# Altium footprint library samd21-temp.PCBLIB: 31 footprints (part 2 of 2)
Each footprint in its own frame and in the unit in brackets; x right, y up, seen from the top. Pads: shape width x height; smd on the part's side, far side on the other; paste and mask are expansions set on the pad; w line width, h text height; cw(c..) or ccw(c..) is an arc to the next point about the centre after c.
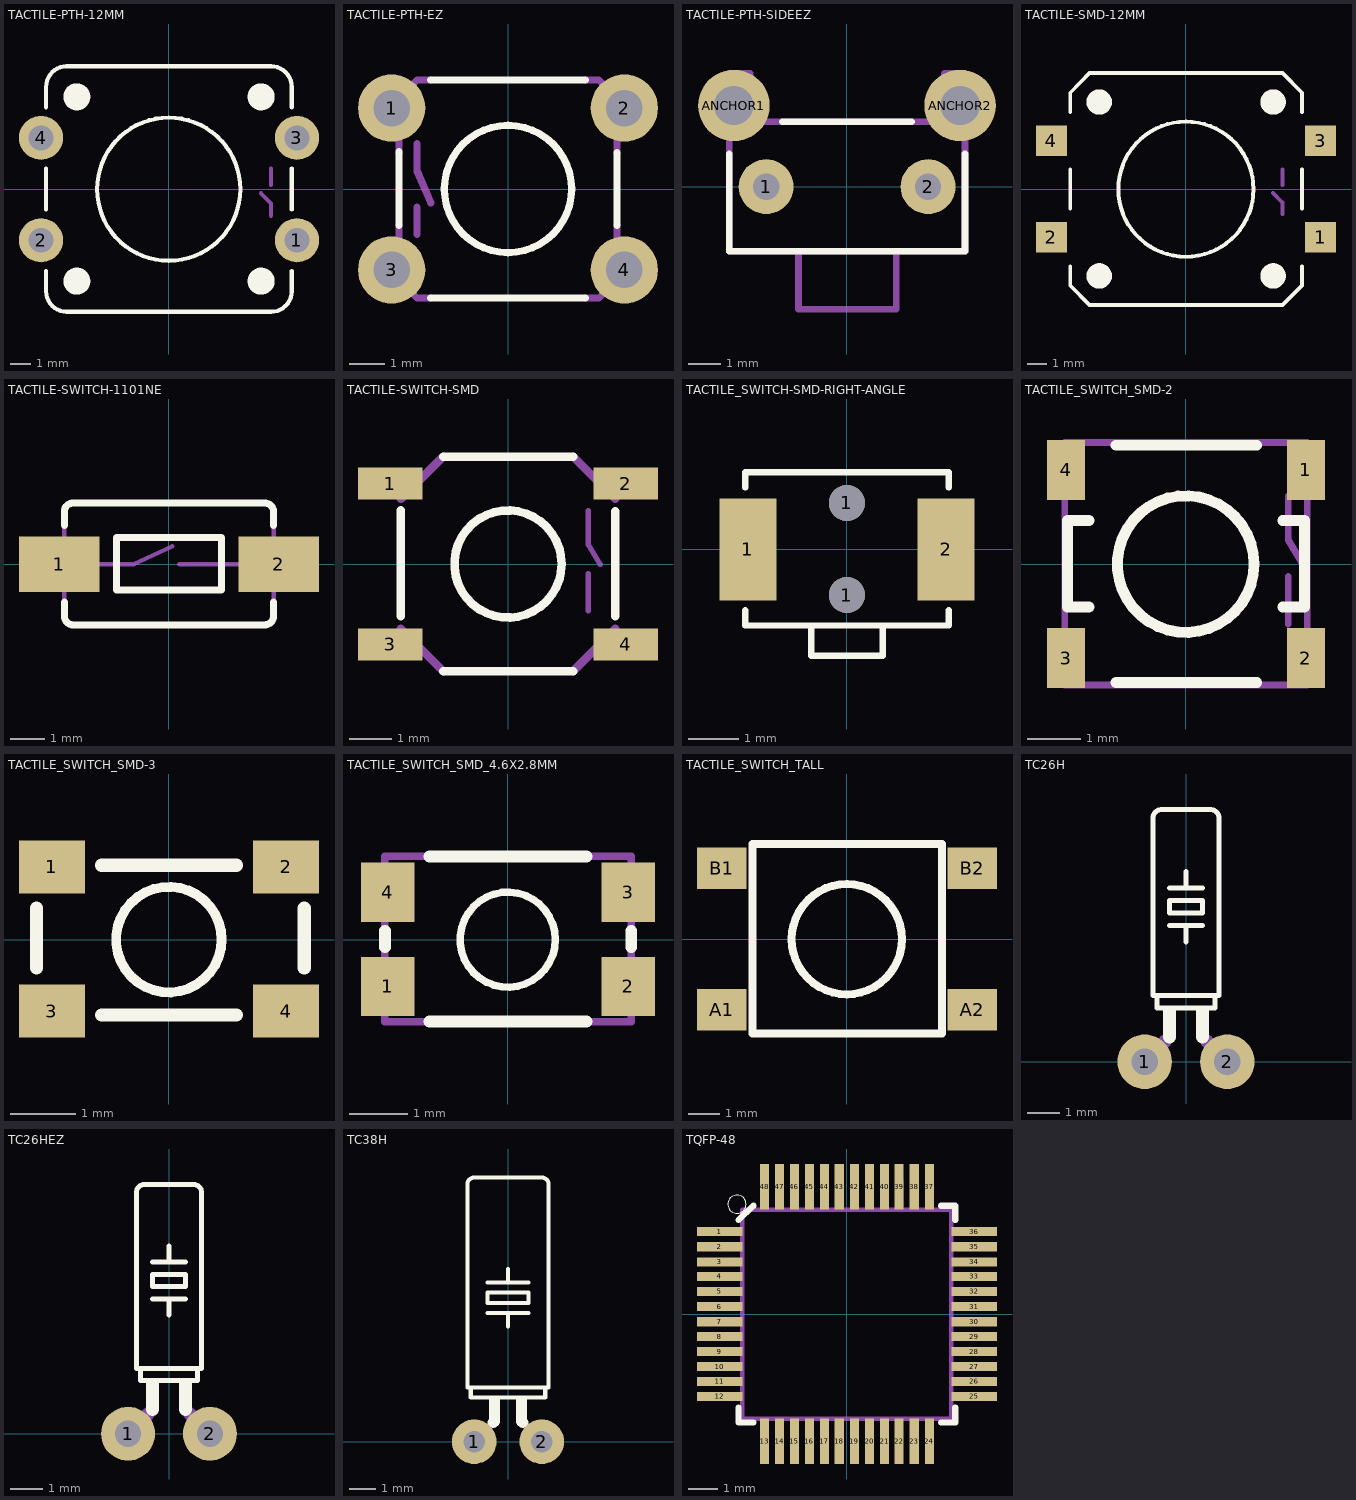
[diagram p1: the footprints below, top view; thin cyan lines are the x and y axes]

## TACTILE-PTH-12MM [mil]
pads (4):
  round 85 hole 48: 1(247,-98.43) 2(-246.06,-98.43) 3(247,99) 4(-246.06,99)
Top Overlay:
  circle w8: c0,0 r138
  circle w28: c-177.17,178 r12
  circle w28: c178,178 r12
  circle w28: c178,-177.17 r12
  circle w28: c-177.17,-177.17 r12
  lines w8: -236.22,-157.48 -236.22,-196.85 ccw(c-196.85,-196.85) -196.85,-236.22 197,-236.22 ccw(c197.31,-196.54) 237,-196.85 237,-157.48 ; -236.22,-39.37 -236.22,40 ; -236.22,158 -236.22,197 cw(c-196.54,197.31) -196.85,237 197,237 cw(c197,197) 237,197 237,158 ; 237,-39.37 237,40
Mechanical 16:
  lines w8: 178,-7.87 197,-27.56 197,-51.18 ; 197,8 197,40

## TACTILE-PTH-EZ [mil]
pads (4):
  round 74 hole 40: 1(-128,89) 2(128,89) 3(-128,-89) 4(128,-89)
Top Overlay:
  circle w8: c0,0 r70
  lines w8: -120,-40 -120,41 ; -85,-120 85,-120 ; -85,120 85,120 ; 120,-40 120,40
Top Solder:
  region: 0,0 10,0 10,10 0,10
  region: 0,0 10,0 10,10 0,10
  region: 0,0 10,0 10,10 0,10
  region: 0,0 10,0 10,10 0,10
Bottom Solder:
  region: 0,0 10,0 10,10 0,10
  region: 0,0 10,0 10,10 0,10
  region: 0,0 10,0 10,10 0,10
  region: 0,0 10,0 10,10 0,10
Mechanical 16:
  lines w8: -120,-40 -120,-100 -100,-120 -85,-120 ; -120,40 -120,100 -100,120 -85,120 ; -100,-50 -100,-20 ; -100,50 -100,20 -85,-15 ; 85,-120 100,-120 120,-100 120,-40 ; 85,120 100,120 120,100 120,40

## TACTILE-PTH-SIDEEZ [mil]
pads (4):
  round 67 hole 32: 1(-98.43,0) 2(99,0)
  round 87 hole 48: ANCHOR1(-137.8,99) ANCHOR2(138,99)
Top Overlay:
  lines w8: -143.7,40 -143.7,-78.74 144,-78.74 144,40 ; -78.74,79 79,79
Top Solder:
  circle w0: c99,0 r18
  circle w0: c-98.43,0 r18
  circle w0: c-137.8,99 r25
  circle w0: c138,99 r25
Bottom Solder:
  circle w0: c-137.8,99 r45
  circle w0: c99,0 r35
  circle w0: c-98.43,0 r35
  circle w0: c138,99 r45
Mechanical 16:
  lines w8: -59.06,-78.74 -143.7,-78.74 -143.7,138 -118.11,138 -118.11,79 119,79 119,138 144,138 144,-78.74 60,-78.74 ; -59.06,-78.74 60,-78.74 ; -59.06,-78.74 -59.06,-149.61 60,-149.61 60,-78.74

## TACTILE-SMD-12MM [mil]
pads (4):
  rect 63x62 smd: 1(275,-98.43) 2(-274.61,-98.43) 3(275,99) 4(-274.61,99)
Top Overlay:
  circle w8: c0,0 r138
  circle w28: c-177.17,178 r12
  circle w28: c178,178 r12
  circle w28: c178,-177.17 r12
  circle w28: c-177.17,-177.17 r12
  lines w8: -236.22,-157.48 -236.22,-196.85 -196.85,-236.22 197,-236.22 237,-196.85 237,-157.48 ; -236.22,-39.37 -236.22,40 ; -236.22,158 -236.22,197 -196.85,237 197,237 237,197 237,158 ; 237,-39.37 237,40
Mechanical 16:
  lines w8: 178,-7.87 197,-27.56 197,-51.18 ; 197,8 197,40

## TACTILE-SWITCH-1101NE [mil]
pads (2):
  rect 91x63 smd: 1(-124.02,0) 2(125,0)
Top Overlay:
  lines w8: -118.11,-43.31 -118.11,-59.06 ccw(c-108.27,-59.06) -108.27,-68.9 109,-68.9 ccw(c109.08,-58.98) 119,-59.06 119,-43.31 ; -118.11,44 -118.11,60 cw(c-108.69,59.58) -108.27,69 109,69 cw(c109.5,59.5) 119,60 119,44 ; -59.06,-29.53 60,-29.53 60,30 -59.06,30 -59.06,-29.53
Mechanical 16:
  lines w5: -118.11,-43.31 -118.11,44 ; -78.74,0 -39.37,0 4,20 ; 12,0 79,0 ; 119,-43.31 119,44

## TACTILE-SWITCH-SMD [mil]
pads (4):
  rect 60x30 smd: 1(-110,75) 2(110,75) 3(-110,-75) 4(110,-75)
Top Overlay:
  circle w8: c0,0 r50
  lines w8: -100,-48.82 -100,50 ; -60.63,-100 61,-100 ; -60.63,100 61,100 ; 100,-48.82 100,49
Mechanical 16:
  lines w5: 75,-43.9 75,-9.06 ; 75,50 75,18 86,-0.39
  lines w8: -100,-60.63 -60.63,-100 ; -100,61 -60.63,100 ; 61,-100 100,-60.63 ; 61,100 100,61

## TACTILE_SWITCH-SMD-RIGHT-ANGLE [mil]
pads (4):
  rect 44x79 smd: 1(-76.77,0) 2(77,0)
  round 28 hole 28: 1(0,-35.43) 1(0,36)
Top Overlay:
  lines w5: -78.74,-47.24 -78.74,-59.06 -27.56,-59.06 ; -78.74,48 -78.74,60 79,60 79,48 ; 79,-47.24 79,-59.06 28,-59.06 ; -27.56,-59.06 28,-59.06 ; -27.56,-59.06 -27.56,-82.68 28,-82.68 28,-59.06

## TACTILE_SWITCH_SMD-2 [mil]
pads (4):
  rect 28x44 smd: 1(88,69) 2(88,-68.9) 3(-87.6,-68.9) 4(-87.6,69)
Top Overlay:
  circle w8: c0,0 r50
  lines w8: -70.87,-31.5 -86.61,-31.5 -86.61,32 -70.87,32 ; -51.18,-86.61 52,-86.61 ; -51.18,87 52,87 ; 71,-31.5 87,-31.5 87,32 71,32
Mechanical 16:
  lines w5: 75,-43.9 75,-9.06 ; 75,50 75,18 86,-0.39 ; -88.58,-88.58 89,-88.58 89,89 -88.58,89 -88.58,-88.58

## TACTILE_SWITCH_SMD-3 [mil]
pads (4):
  rect 40x32 smd: 1(-70.87,44) 2(71,44) 3(-70.87,-43.31) 4(71,-43.31)
Top Overlay:
  circle w6: c0,0 r32
  lines w8: -80.31,-17.32 -80.31,19 ; -40.94,-45.67 41,-45.67 ; -40.94,45 41,45 ; 82,-17.32 82,19

## TACTILE_SWITCH_SMD_4.6X2.8MM [mil]
pads (4):
  rect 36x40 smd: 1(-80.71,-31.5) 2(81,-31.5) 3(81,32) 4(-80.71,32)
Top Overlay:
  circle w5: c0,0 r32
  lines w8: -82.68,-5.12 -82.68,6 ; -52.68,-55.12 53,-55.12 ; -52.68,56 53,56 ; 83,-5.12 83,6
Mechanical 16:
  rectangle: -90.55,20 -82.68,44
  rectangle: -90.55,-43.31 -82.68,-19.68
  region: 91,-19.68 83,-19.68 83,-43.31 91,-43.31
  region: 91,44 83,44 83,20 91,20
  lines w5: -82.68,-55.12 -82.68,56 83,56 83,-55.12 -82.68,-55.12

## TACTILE_SWITCH_TALL [mil]
pads (4):
  rect 62x52 smd: A1(-156.5,-88.58) A2(157,-88.58) B1(-156.5,89) B2(157,89)
Top Overlay:
  circle w10: c0,0 r69
  lines w10: -118.11,-118.11 119,-118.11 119,119 -118.11,119 -118.11,-118.11

## TC26H [mil]
pads (2):
  round 66 hole 32: 1(-50,0) 2(50,0)
Top Overlay:
  rectangle: 12,40 28,63
  rectangle: -28,40 -12,63
  lines w6: -20,165 0,165 ; -20,210 0,210 ; 0,145 0,165 ; 0,230 0,210 ; 20,165 0,165 ; 20,210 0,210 ; -35,80 -35,65 35,65 35,80 ; -35,80 -40,80 -40,295 cw(c-30,295) -30,305 30,305 cw(c30,295) 40,295 40,80 35,80 ; -35,80 35,80 ; -20,180 -20,195 20,195 20,180 -20,180
  lines w16: -20,30 -20,50 ; 20,30 20,45
Mechanical 16:
  lines w16: -50,0 -25,25 ; 25,25 50,0
Via Holes:
  rectangle: -70,30 70,330

## TC26HEZ [mil]
pads (2):
  round 66 hole 32: 1(-50,0) 2(50,0)
Top Overlay:
  rectangle: 12,40 28,63
  rectangle: -28,40 -12,63
  lines w6: -20,165 0,165 ; -20,210 0,210 ; 0,145 0,165 ; 0,230 0,210 ; 20,165 0,165 ; 20,210 0,210 ; -35,80 -35,65 35,65 35,80 ; -35,80 -40,80 -40,295 cw(c-30,295) -30,305 30,305 cw(c30,295) 40,295 40,80 35,80 ; -35,80 35,80 ; -20,180 -20,195 20,195 20,180 -20,180
  lines w16: -20,30 -20,50 ; 20,30 20,45
Top Solder:
  circle w0: c-50,0 r20
  circle w0: c50,0 r20
Bottom Solder:
  circle w0: c-50,0 r37
  circle w0: c50,0 r37
Mechanical 16:
  lines w16: -50,0 -25,25 ; 25,25 50,0
Via Holes:
  rectangle: -70,30 70,330

## TC38H [mil]
pads (2):
  round 66 hole 32: 1(-50,0) 2(50,0)
Top Overlay:
  rectangle: 12,40 28,63
  rectangle: -28,40 -12,63
  lines w6: -30,190 0,190 ; -30,235 0,235 ; 0,170 0,190 ; 0,255 0,235 ; 30,190 0,190 ; 30,235 0,235 ; -55,80 -55,65 55,65 55,80 ; -55,80 -60,80 -60,380 cw(c-50,380) -50,390 50,390 cw(c50,380) 60,380 60,80 55,80 ; -55,80 55,80 ; -30,205 -30,220 30,220 30,205 -30,205
  lines w16: -22,28 -20,30 -20,40 ; 20,45 20,30 22,28
Mechanical 16:
  lines w6: -50,0 -25,25 ; 25,25 50,0
Via Holes:
  rectangle: -70,40 70,410

## TQFP-48 [mil]
pads (48):
  rect 60x12 smd: 1(-167.32,109) 2(-167.32,89) 3(-167.32,69) 4(-167.32,50) 5(-167.32,30) 6(-167.32,10) 7(-167.32,-9.84) 8(-167.32,-29.53) 9(-167.32,-49.21) 10(-167.32,-68.9) 11(-167.32,-88.58) 12(-167.32,-108.27) 25(168,-108.27) 26(168,-88.58) 27(168,-68.9) 28(168,-49.21) 29(168,-29.53) 30(168,-9.84) 31(168,10) 32(168,30) 33(168,50) 34(168,69) 35(168,89) 36(168,109)
  rect 12x60 smd: 13(-108.27,-167.32) 14(-88.58,-167.32) 15(-68.9,-167.32) 16(-49.21,-167.32) 17(-29.53,-167.32) 18(-9.84,-167.32) 19(10,-167.32) 20(30,-167.32) 21(50,-167.32) 22(69,-167.32) 23(89,-167.32) 24(109,-167.32) 37(109,168) 38(89,168) 39(69,168) 40(50,168) 41(30,168) 42(10,168) 43(-9.84,168) 44(-29.53,168) 45(-49.21,168) 46(-68.9,168) 47(-88.58,168) 48(-108.27,168)
Top Overlay:
  circle w0: c-144.61,145 r12
  lines w8: -142.8,-123.11 -142.8,-142.8 -123.11,-142.8 ; -142.8,124 -123.11,143 ; 124,-142.8 143,-142.8 143,-123.11 ; 124,143 143,143 143,124
Mechanical 16:
  rectangle: -177.17,5 -137.8,15
  rectangle: -177.17,-14.76 -137.8,-4.92
  rectangle: -177.17,25 -137.8,35
  rectangle: -177.17,45 -137.8,55
  rectangle: -177.17,64 -137.8,74
  rectangle: -177.17,84 -137.8,94
  rectangle: -177.17,104 -137.8,114
  rectangle: -177.17,-34.45 -137.8,-24.61
  rectangle: -177.17,-54.13 -137.8,-44.29
  rectangle: -177.17,-73.82 -137.8,-63.98
  rectangle: -177.17,-93.5 -137.8,-83.66
  rectangle: -177.17,-113.19 -137.8,-103.35
  region: -4.84,-177.24 -4.84,-137.72 -14.69,-137.72 -14.69,-177.24
  region: 15,-177.4 15,-137.56 5.16,-137.56 5.16,-177.4
  region: -24.61,-177.17 -24.61,-137.8 -34.45,-137.8 -34.45,-177.17
  region: -44.29,-177.17 -44.29,-137.8 -54.13,-137.8 -54.13,-177.17
  region: -63.98,-177.17 -63.98,-137.8 -73.82,-137.8 -73.82,-177.17
  region: -83.66,-177.17 -83.66,-137.8 -93.5,-137.8 -93.5,-177.17
  region: -103.35,-177.17 -103.35,-137.8 -113.19,-137.8 -113.19,-177.17
  region: 34.92,-177.48 34.92,-137.48 25.08,-137.48 25.08,-177.48
  region: 54.42,-176.98 54.42,-137.98 44.58,-137.98 44.58,-176.98
  region: 74.42,-176.98 74.42,-137.98 64.58,-137.98 64.58,-176.98
  region: 93.92,-177.48 93.92,-137.48 84.08,-137.48 84.08,-177.48
  region: 113.42,-176.98 113.42,-137.98 103.58,-137.98 103.58,-176.98
  region: 178,-4.92 138,-4.92 138,-14.76 178,-14.76
  region: 178,15 138,15 138,5 178,5
  region: 178,-24.61 138,-24.61 138,-34.45 178,-34.45
  region: 178,-44.29 138,-44.29 138,-54.13 178,-54.13
  region: 178,-63.98 138,-63.98 138,-73.82 178,-73.82
  region: 178,-83.66 138,-83.66 138,-93.5 178,-93.5
  region: 178,-103.35 138,-103.35 138,-113.19 178,-113.19
  region: 178,35 138,35 138,25 178,25
  region: 178,55 138,55 138,45 178,45
  region: 178,74 138,74 138,64 178,64
  region: 178,94 138,94 138,84 178,84
  region: 178,114 138,114 138,104 178,104
  region: 5.08,177.92 5.08,138.08 15.08,138.08 15.08,177.92
  region: -14.76,177.76 -14.76,138.24 -4.76,138.24 -4.76,177.76
  region: 25,178 25,138 35,138 35,178
  region: 44.5,177.5 44.5,138.5 54.5,138.5 54.5,177.5
  region: 64.5,177.5 64.5,138.5 74.5,138.5 74.5,177.5
  region: 84,178 84,138 94,138 94,178
  region: 103.5,177.5 103.5,138.5 113.5,138.5 113.5,177.5
  region: -34.53,177.69 -34.53,138.31 -24.53,138.31 -24.53,177.69
  region: -54.21,177.69 -54.21,138.31 -44.21,138.31 -44.21,177.69
  region: -73.9,177.69 -73.9,138.31 -63.9,138.31 -63.9,177.69
  region: -93.58,177.69 -93.58,138.31 -83.58,138.31 -83.58,177.69
  region: -113.27,177.69 -113.27,138.31 -103.27,138.31 -103.27,177.69
  lines w6: -137.8,-137.8 -137.8,138 138,138 138,-137.8 -137.8,-137.8